# EAGLE library part SE5004L-R (library RF Amplifier)
IC AMP 802.11AN 5.15-5.85GHZ QFN Manufacturer's datasheet <https://www.skyworksinc.com/-/media/SkyWorks/Documents/Products/601-700/SE5004L_202393B.pdf>
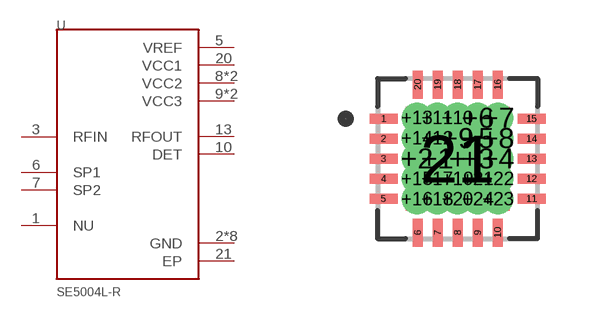
[diagram p2: symbol with the pads of SE5004L-R; footprint SE5004L-R]

Designator prefix U

## SE5004L-R (CREATED_BY: PCBLayout.com; DIGIKEY_PN: 863-1376-2-ND; MANUFACTURER: Skyworks Solutions Inc.; MPN: SE5004L-R; PACKAGE: 20-VFQFN)  [SE5004L-R]
1  NU  pas
2  GND  pwr
3  RFIN  in
4  GND  pwr
5  VREF  pwr
6  SP1
7  SP2
8  VCC2  pwr
9  VCC3  pwr
10  DET  out
11  GND  pwr
12  GND  pwr
13  RFOUT  out
14  GND  pwr
15  GND  pwr
16  GND  pwr
17  GND  pwr
18  VCC3  pwr
19  VCC2  pwr
20  VCC1  pwr
21  EP  pwr

## Footprint SE5004L-R (pad centres in mm)
smd 0.7 x 0.25: 1 -1.85,1; 2 -1.85,0.5; 3 -1.85,0; 4 -1.85,-0.5; 5 -1.85,-1; 11 1.85,-1; 12 1.85,-0.5; 13 1.85,0; 14 1.85,0.5; 15 1.85,1
smd 0.25 x 0.7: 6 -1,-1.85; 7 -0.5,-1.85; 8 0,-1.85; 9 0.5,-1.85; 10 1,-1.85; 16 1,1.85; 17 0.5,1.85; 18 0,1.85; 19 -0.5,1.85; 20 -1,1.85
smd 2.6 x 2.6: 21 0,0
drill 0.25 pad 0.4: + 0,0; +1 -0.508,0; +2 -1.016,0; +3 0.508,0; +4 1.016,0; +5 0.508,0.508; +6 0.508,1.016; +7 1.016,1.016; +8 1.016,0.508; +9 0,0.508; +10 0,1.016; +11 -0.508,1.016; +12 -0.508,0.508; +13 -1.016,1.016; +14 -1.016,0.508; +15 -1.016,-0.508; +16 -1.016,-1.016; +17 -0.508,-0.508; +18 -0.508,-1.016; +19 0,-0.508; +20 0,-1.016; +21 0.508,-0.508; +22 1.016,-0.508; +23 1.016,-1.016; +24 0.508,-1.016